# Altium footprint library PHOENIX_SPT_SMD_3.5MM_2x1.PcbLib: 1 footprints
Each footprint in its own frame and in the unit in brackets; x right, y up, seen from the top. Pads: shape width x height; smd on the part's side, far side on the other; paste and mask are expansions set on the pad; w line width, h text height; cw(c..) or ccw(c..) is an arc to the next point about the centre after c.
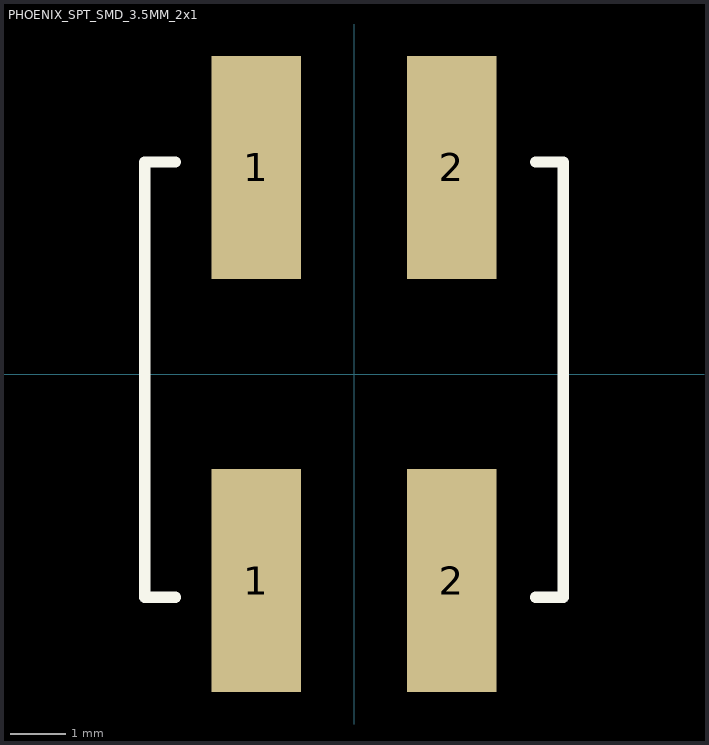
[diagram p0: the footprint, top view; thin cyan lines are the x and y axes]

## PHOENIX_SPT_SMD_3.5MM_2x1 [mm]
pads (4):
  rect 1.6x4 smd: 1(-1.75,-3.7) 1(-1.75,3.7) 2(1.75,-3.7) 2(1.75,3.7)
Top Overlay:
  lines w0.2: -3.2,-4 -3.75,-4 -3.75,3.8 -3.2,3.8 ; 3.25,-4 3.75,-4 3.75,3.8 3.25,3.8
3D body "PHOENIX_1824080_02_SPT-SMD.stp": height 13.62, standoff -0.15, extent -3.77,-4.998 3.77,4.999